# EAGLE library part SN74HC163D_COUNTER (library DBCon)
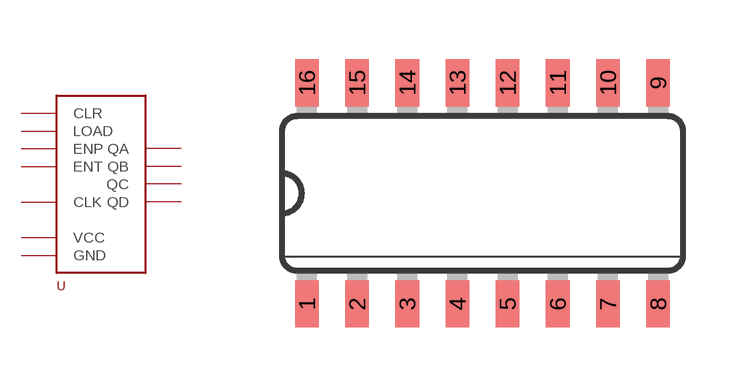
[diagram p1: symbol with the pads of SO16; footprint SO16]

Designator prefix -

## SN74HC163D_COUNTER  [SO16]
1  CLR
2  CLK
7  ENP
8  GND
9  LOAD
10  ENT
11  QD
12  QC
13  QB
14  QA
16  VCC

## Footprint SO16 (pad centres in mm)
Small Outline package 150 mil
smd 0.6 x 1.2: 1 -4.445,-2.8; 2 -3.175,-2.8; 3 -1.905,-2.8; 4 -0.635,-2.8; 5 0.635,-2.8; 6 1.905,-2.8; 7 3.175,-2.8; 8 4.445,-2.8; 9 4.445,2.8; 10 3.175,2.8; 11 1.905,2.8; 12 0.635,2.8; 13 -0.635,2.8; 14 -1.905,2.8; 15 -3.175,2.8; 16 -4.445,2.8